# EAGLE library part DSPIC33EP32MC202 (library microchip-dspic)
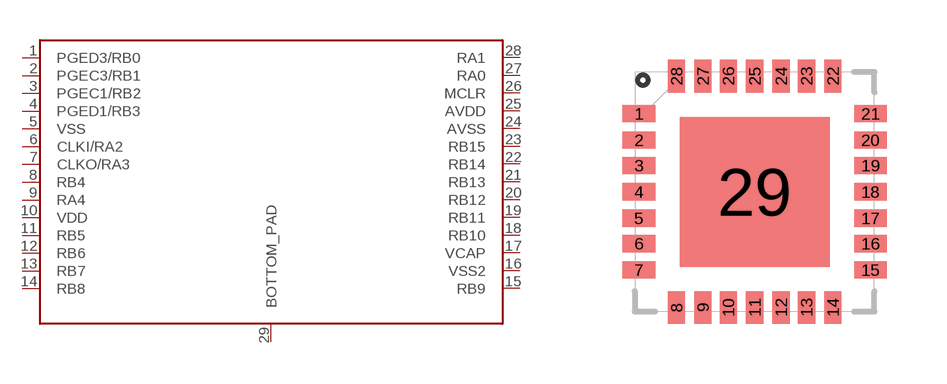
[diagram p55: symbol with the pads of QFN-S28_6X6MC; footprint QFN-S28_6X6MC]

Designator prefix -

## DSPIC33EP32MC202  [QFN-S28_6X6MC]
1  PGED3/RB0
2  PGEC3/RB1
3  PGEC1/RB2
4  PGED1/RB3
5  VSS  pwr
6  CLKI/RA2
7  CLKO/RA3
8  RB4
9  RA4
10  VDD
11  RB5
12  RB6
13  RB7
14  RB8
15  RB9
16  VSS2  pwr
17  VCAP
18  RB10
19  RB11
20  RB12
21  RB13
22  RB14
23  RB15
24  AVSS
25  AVDD
26  MCLR
27  RA0
28  RA1
29  BOTTOM_PAD

## Footprint QFN-S28_6X6MC (pad centres in mm)
smd 0.813 x 0.432: 1 -2.896,1.956; 2 -2.896,1.295; 3 -2.896,0.66; 4 -2.896,0; 5 -2.896,-0.66; 6 -2.896,-1.295; 7 -2.896,-1.956; 15 2.896,-1.956; 16 2.896,-1.295; 17 2.896,-0.66; 18 2.896,0; 19 2.896,0.66; 20 2.896,1.295; 21 2.896,1.956
smd 0.432 x 0.813: 8 -1.956,-2.896; 9 -1.295,-2.896; 10 -0.66,-2.896; 11 0,-2.896; 12 0.66,-2.896; 13 1.295,-2.896; 14 1.956,-2.896; 22 1.956,2.896; 23 1.295,2.896; 24 0.66,2.896; 25 0,2.896; 26 -0.66,2.896; 27 -1.295,2.896; 28 -1.956,2.896
smd 3.75 x 3.75: 29 0,0